# EAGLE library part CON_MPX (library booz)
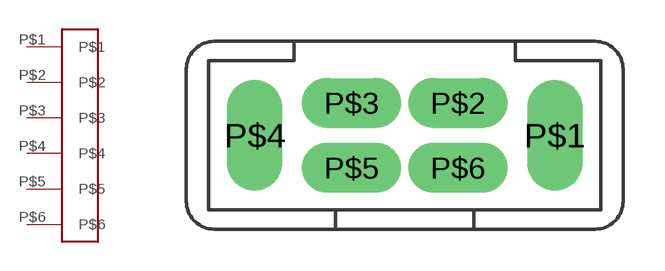
[diagram p0: symbol with the pads of CON_MPX; footprint CON_MPX]

Designator prefix -

## CON_MPX  [CON_MPX]
P$1  P$1
P$2  P$2
P$3  P$3
P$4  P$4
P$5  P$5
P$6  P$6

## Footprint CON_MPX (pad centres in mm)
Multiplex hobby power connector
drill 1.2 pad 2 long: P$1 5.425,0; P$4 -5.425,0
drill 1.2 pad 1.7 long: P$2 1.925,1.175; P$3 -1.925,1.175; P$5 -1.925,-1.175; P$6 1.925,-1.175